# Altium footprint library sustentationAvecPC.PcbLib: 21 footprints (part 1 of 2)
Each footprint in its own frame and in the unit in brackets; x right, y up, seen from the top. Pads: shape width x height; smd on the part's side, far side on the other; paste and mask are expansions set on the pad; w line width, h text height; cw(c..) or ccw(c..) is an arc to the next point about the centre after c.
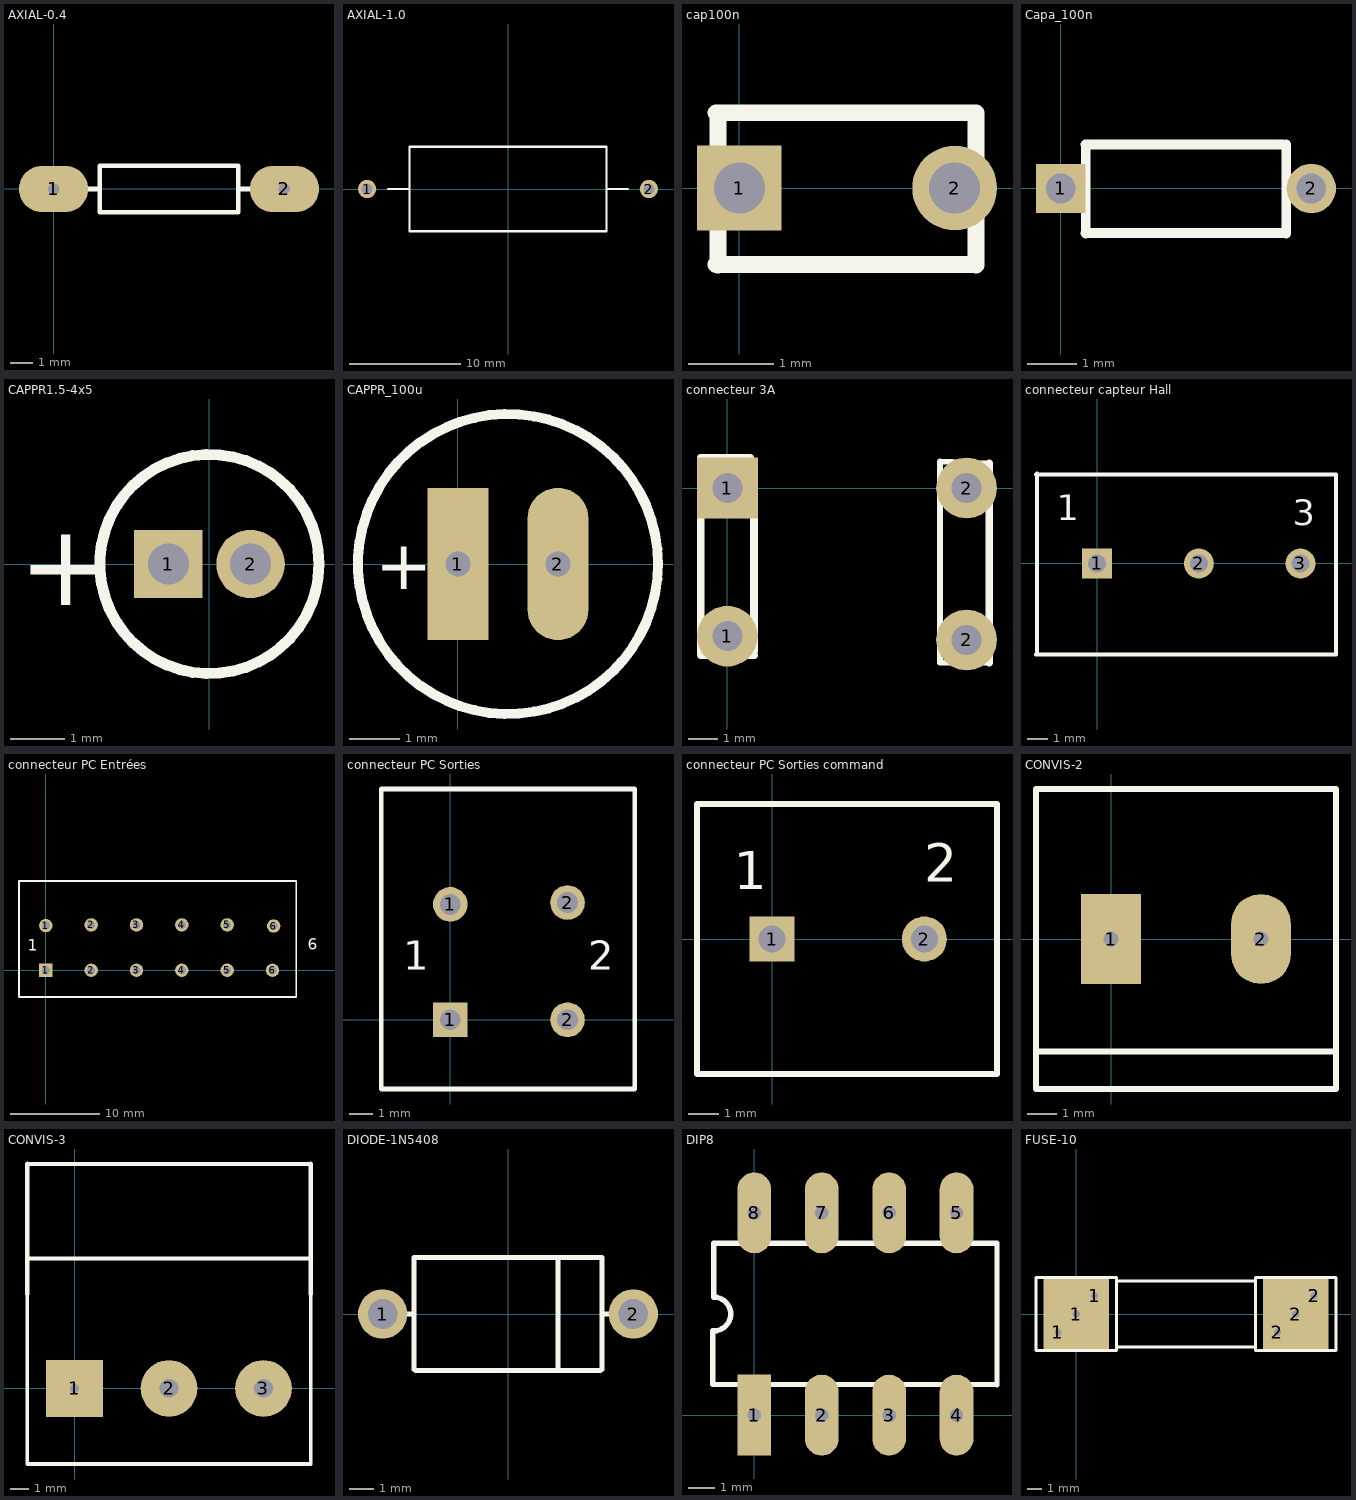
[diagram p0: the footprints below, top view; thin cyan lines are the x and y axes]

## AXIAL-0.4 [mil]
pads (2):
  oval 120x80 hole 19.68: 1(0,0) 2(400,0)
Top Overlay:
  lines w7.87: 40,0 80,0 ; 320,0 360,0 ; 80,-40 320,-40 320,40 80,40 80,-40

## AXIAL-1.0 [mm] "Adjustable Magnetic-Core Inductor; 2 Leads"
pads (2):
  round 1.65 hole 1: 1(-12.7,0) 2(12.7,0)
Top Overlay:
  lines w0.2: -10.795,0 -8.89,0 ; 8.89,0 10.795,0 ; -8.89,-3.81 -8.89,3.81 8.89,3.81 8.89,-3.81 -8.89,-3.81

## cap100n [mm] "Connector; Header; 2 Position"
pads (2):
  rect 1x1 hole 0.6: 1(0,0)
  round 1 hole 0.6: 2(2.54,0)
Top Overlay:
  lines w0.2: -0.276,-0.9 2.794,-0.9 ; -0.276,0.889 2.794,0.889 2.794,-0.911 ; -0.254,-0.911 -0.254,0.889

## Capa_100n [mm] "Connector; Header; 2 Position"
pads (2):
  rect 1x1 hole 0.6: 1(0,0)
  round 1 hole 0.6: 2(5.08,0)
Top Overlay:
  lines w0.2: 0.5,-0.9 4.5,-0.9 ; 0.5,0.889 4.5,0.889 ; 0.508,-0.911 0.508,0.889 ; 4.572,-0.911 4.572,0.889

## CAPPR1.5-4x5 [mm] "Capacitor, Electrolytic, Radial; Body 4 x 5 mm (Dia.xH typ); Pin Spacing 1.5 mm (typ)"
pads (2):
  rect 1.25x1.25 hole 0.75: 1(-0.75,0)
  round 1.25 hole 0.75: 2(0.75,0)
Top Overlay:
  circle w0.2: c0,0 r2
  text "+" at -3.475,-0.75 h1.5

## CAPPR_100u [mil]
pads (2):
  rect 48x120 hole 19.68: 1(0,0)
  oval 48x120 hole 19.68: 2(78.74,0)
Top Overlay:
  circle w7.87: c39.37,0 r118.11
  text "+" at -65,-20 h39.37

## connecteur 3A [mil] "Connector; Header; 2 Position"
pads (4):
  round 80 hole 39.37: 1(0,-195) 2(314.96,-200) 2(314.96,0)
  rect 80x80 hole 39.37: 1(0,0)
Top Overlay:
  lines w7.87: -10,-27.56 -10,27.56 ; 345,32.56 280,35 280,-230 345.87,-230
  lines w10: 30,40 -35,40 -35,-220 35,-220 ; 35,-215 35,15 ; 345,-230 345,32.56

## connecteur capteur Hall [mm] "Connector; Header; 3x1 Position"
pads (3):
  rect 1.5x1.5 hole 0.9: 1(0,0)
  round 1.5 hole 0.9: 2(5.08,0) 3(10.16,0)
Top Overlay:
  lines w0.2: -3.062,-4.555 11.938,-4.555 11.938,4.445 -3.062,4.445 ; -3,-4.5 -3,4.5
  text "3" at 9.779,1.905 h1.27
  text "1" at -2.032,2.159 h1.27

## connecteur PC Entrées [mm] "Connector; Header; 6x2 Position"
pads (12):
  rect 1.5x1.5 hole 0.9: 1(0,0)
  round 1.5 hole 0.9: 1(0,5) 2(5.08,0) 2(5.08,5.08) 3(10.16,0) 3(10.16,5.08) 4(15.24,0) 4(15.24,5.08) 5(20.32,0) 5(20.32,5.08) 6(25.4,0) 6(25.527,4.953)
Top Overlay:
  lines w0.2: -3,-3 28.067,-3 28.067,10 -3,10 -3,-3
  text "1" at -2.032,2.159 h1.27
  text "6" at 29.337,2.286 h1.27

## connecteur PC Sorties [mm] "Connector; Header; 2x2 Position"
pads (4):
  rect 1.5x1.5 hole 0.9: 1(0,0)
  round 1.5 hole 0.9: 1(0,5) 2(5.08,0) 2(5.08,5.08)
Top Overlay:
  lines w0.2: -3,-3 -3,10 8.001,10 8.001,-3 -3,-3
  text "2" at 5.969,2.159 h1.27
  text "1" at -2.032,2.159 h1.27

## connecteur PC Sorties command [mm] "Connector; Header; 2x1 Position"
pads (2):
  rect 1.5x1.5 hole 0.9: 1(0,0)
  round 1.5 hole 0.9: 2(5.08,0)
Top Overlay:
  lines w0.2: -2.5,-4.5 -2.5,4.5 7.5,4.5 7.5,-4.5 -2.5,-4.5
  text "2" at 5.08,1.905 h1.27
  text "1" at -1.27,1.651 h1.27

## CONVIS-2 [mil]
pads (2):
  rect 80x120 hole 19.68: 1(0,0)
  oval 80x120 hole 19.68: 2(200,0)
Top Overlay:
  lines w8: -100,-150 300,-150 ; -100,-200 -100,200 100,200 300,200 300,-200 -100,-200

## CONVIS-3 [mil]
pads (3):
  rect 120x120 hole 19.68: 1(0,0)
  round 120 hole 39.37: 2(200,0) 3(400,0)
Top Overlay:
  lines w8: -100,200 -100,-160 500,-160 500,200 ; -100,275 500,275 ; -100,475 500,475
  lines w10: -100,200 -100,475 ; 500,200 500,475

## DIODE-1N5408 [mm] "Tunnel Diode - Dependent Source Model; 2 Leads"
pads (2):
  round 2 hole 1.2: 1(-5.08,0) 2(5.08,0)
Top Overlay:
  lines w0.2: -4.699,0 -3.937,0 ; -3.81,-2.254 -3.81,2.286 ; -3.75,-2.286 3.75,-2.286 ; -3.75,2.286 3.75,2.286 ; 2.032,-2.27 2.032,2.27 ; 3.81,-2.254 3.81,2.286 ; 3.937,0 4.699,0

## DIP8 [mil]
pads (8):
  rect 50x120 hole 19.68: 1(0,0)
  oval 50x120 hole 19.68: 2(100,0) 3(200,0) 4(300,0) 5(300,300) 6(200,300) 7(100,300) 8(0,300)
Top Overlay:
  lines w7.87: -61.53,125 -61.53,45.67 360,45 360,255 -60,255 -60,175 cw(c-60,150) -60,125

## FUSE-10 [mil]
pads (6):
  rect 80x90 hole 19.68: 1(-50,-50) 1(50,50) 2(550,-50) 2(650,50)
  rect 180x190 hole 19.68: 1(0,0) 2(600,0)
Mid-Layer 1:
  lines w50: -50,-50 50,50 ; 550,-50 650,50
Top Overlay:
  lines w7.87: 110,-90 490,-90 ; 110,90 490,90 ; -110,-100 110,-100 110,100 -110,100 -110,-100 ; 490,-100 490,100 710,100 710,-100 490,-100